# EAGLE library part PTPS16410DRCR (library tps1641)
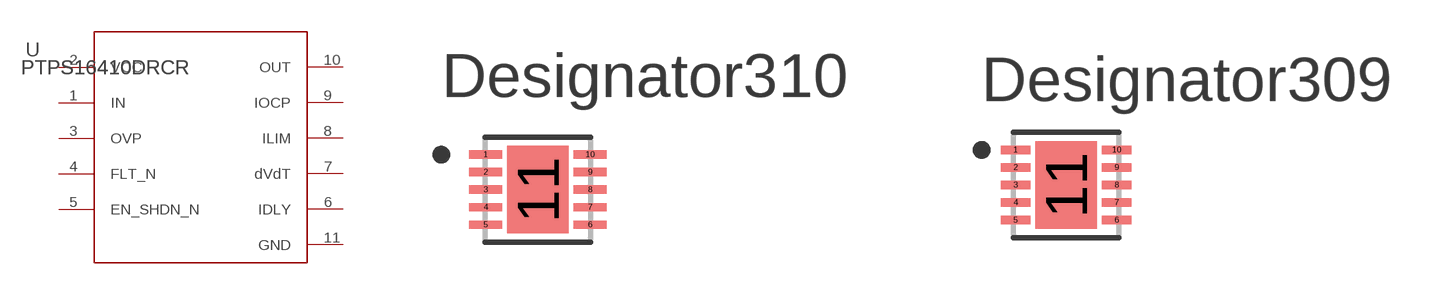
[diagram p0: symbol with the pads of DRC0010J-IPC_A; footprints DRC0010J-IPC_A, DRC0010J-IPC_B]

Designator prefix U

## PTPS16410DRCRDRC0010J-IPC_A (Copyright: Copyright (C) 2024 Ultra Librarian. All rights reserved.; Manufacturer_Part_Number: PTPS16410DRCR; Mfr_Name: Texas Instruments; RefDes: RefDes; TYPE: TYPE)  [DRC0010J-IPC_A]
1  IN  in
2  VCC  pwr
3  OVP  pas
4  FLT_N  pas
5  EN_SHDN_N  in
6  IDLY  pas
7  dVdT  pas
8  ILIM  pas
9  IOCP  pas
10  OUT  out
11  GND  pwr

## PTPS16410DRCRDRC0010J-IPC_B (Copyright: Copyright (C) 2024 Ultra Librarian. All rights reserved.; Manufacturer_Part_Number: PTPS16410DRCR; Mfr_Name: Texas Instruments; RefDes: RefDes; TYPE: TYPE)  [DRC0010J-IPC_B]
Pads as for DRC0010J-IPC_A

## PTPS16410DRCRDRC0010J-IPC_C (Copyright: Copyright (C) 2024 Ultra Librarian. All rights reserved.; Manufacturer_Part_Number: PTPS16410DRCR; Mfr_Name: Texas Instruments; RefDes: RefDes; TYPE: TYPE)  [DRC0010J-IPC_C]
Pads as for DRC0010J-IPC_A

## PTPS16410DRCRDRC0010J-MFG (Copyright: Copyright (C) 2024 Ultra Librarian. All rights reserved.; Manufacturer_Part_Number: PTPS16410DRCR; Mfr_Name: Texas Instruments; RefDes: RefDes; TYPE: TYPE)  [DRC0010J-MFG]
Pads as for DRC0010J-IPC_A

## Footprint DRC0010J-IPC_A (pad centres in mm)
smd 0.931 x 0.239: 1 -1.49,1; 2 -1.49,0.5; 3 -1.49,0; 4 -1.49,-0.5; 5 -1.49,-1; 6 1.49,-1; 7 1.49,-0.5; 8 1.49,0; 9 1.49,0.5; 10 1.49,1
smd 1.75 x 2.5: 11 0,0

## Footprint DRC0010J-IPC_B (pad centres in mm)
smd 0.831 x 0.239: 1 -1.44,1; 2 -1.44,0.5; 3 -1.44,0; 4 -1.44,-0.5; 5 -1.44,-1; 6 1.44,-1; 7 1.44,-0.5; 8 1.44,0; 9 1.44,0.5; 10 1.44,1
smd 1.75 x 2.5: 11 0,0

## Footprint DRC0010J-IPC_C (pad centres in mm)
smd 0.731 x 0.239: 1 -1.391,1; 2 -1.391,0.5; 3 -1.391,0; 4 -1.391,-0.5; 5 -1.391,-1; 6 1.391,-1; 7 1.391,-0.5; 8 1.391,0; 9 1.391,0.5; 10 1.391,1
smd 1.75 x 2.5: 11 0,0

## Footprint DRC0010J-MFG (pad centres in mm)
smd 0.6 x 0.24: 1 -1.4,1; 2 -1.4,0.5; 3 -1.4,0; 4 -1.4,-0.5; 5 -1.4,-1; 6 1.4,-1; 7 1.4,-0.5; 8 1.4,0; 9 1.4,0.5; 10 1.4,1
smd 1.485 x 1.485: 11 0,0